# EAGLE library part 620108131822 (library Wurth_Connectors_WR-WTB)
WR-WTB 2.00 mm SMT Male Horizontal Shrouded Header Kind Properties Pitch 2 mm Gender Male Type Horizontal Material Properties Insulator Material PA9T Insulator Flammability Rating UL94 V-0 Insulator Color Beige Contact Material Copper Alloy Contact Plating Tin Contact Type Stamped General Information Operating Temperature -40 up to +85 °C Working Voltage 100 V (AC) Withstanding Voltage 800 V (AC) Contact Resistance 20 mΩ RISO 1000 MΩ Certification cULus Approval E323964 UL Approval E323964 Packaging Properties Packaging Tape and Reel <https://www.we-online.com/components/media/o33353v209%20Family_WR-WTB_6201xx131822.jpg> Details see: www.we-online.com/components/products/WTB_2_00_SMT_MALE_HORIZONTAL_SHROUDED_HEADER_6201XX131822 <www.we-online.com/catalog/WTB_2_00_SMT_MALE_HORIZONTAL_SHROUDED_HEADER_6201XX131822/?utm_source=eagle_model&utm_medium=description_link&utm_campaign=eisos_eagle> Updated by Ella 2023-07-05 2023 (C) Würth Elektronik
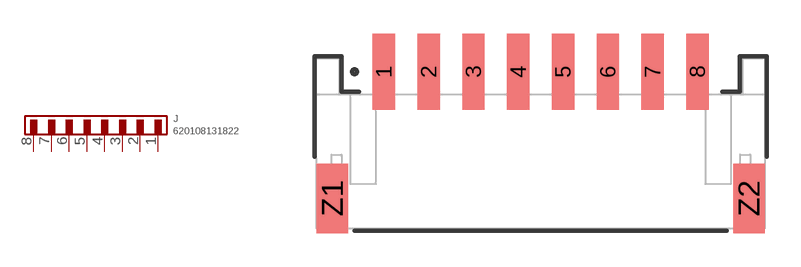
[diagram p45: symbol with the pads of 620108131822; footprint 620108131822]

Designator prefix J

## 620108131822 (CONTACT-RESISTANCE: 20mOhm; DATASHEET-URL: https://www.we-online.com/redexpert/spec/620108131822?ae; GENDER: Male; IR: 2A; L: 20mm; MOUNT: SMT; PACKAGING: Tape and Reel; PART-NUMBER: 620108131822; PCB-CABLE-PANEL: PCB; PINS: 8; PITCH: 2mm; TYPE: Horizontal; VALUE: 620108131822; WORKING-VOLTAGE: 100V(AC))  [620108131822]
1  1  pas
2  2  pas
3  3  pas
4  4  pas
5  5  pas
6  6  pas
7  7  pas
8  8  pas

## Footprint 620108131822 (pad centres in mm)
WR-WTB 2.00 mm SMT Male Horizontal Shrouded Header,8 Pins
smd 1 x 3.4: 1 -7,2.9; 2 -5,2.9; 3 -3,2.9; 4 -1,2.9; 5 1,2.9; 6 3,2.9; 7 5,2.9; 8 7,2.9
smd 1.4 x 3.1: Z1 -9.3,-2.75; Z2 9.3,-2.75